# Altium integrated library Diploma_PCB.IntLib: 18 symbols
Pins are listed as number, name and electrical type; pins without a type are passive.

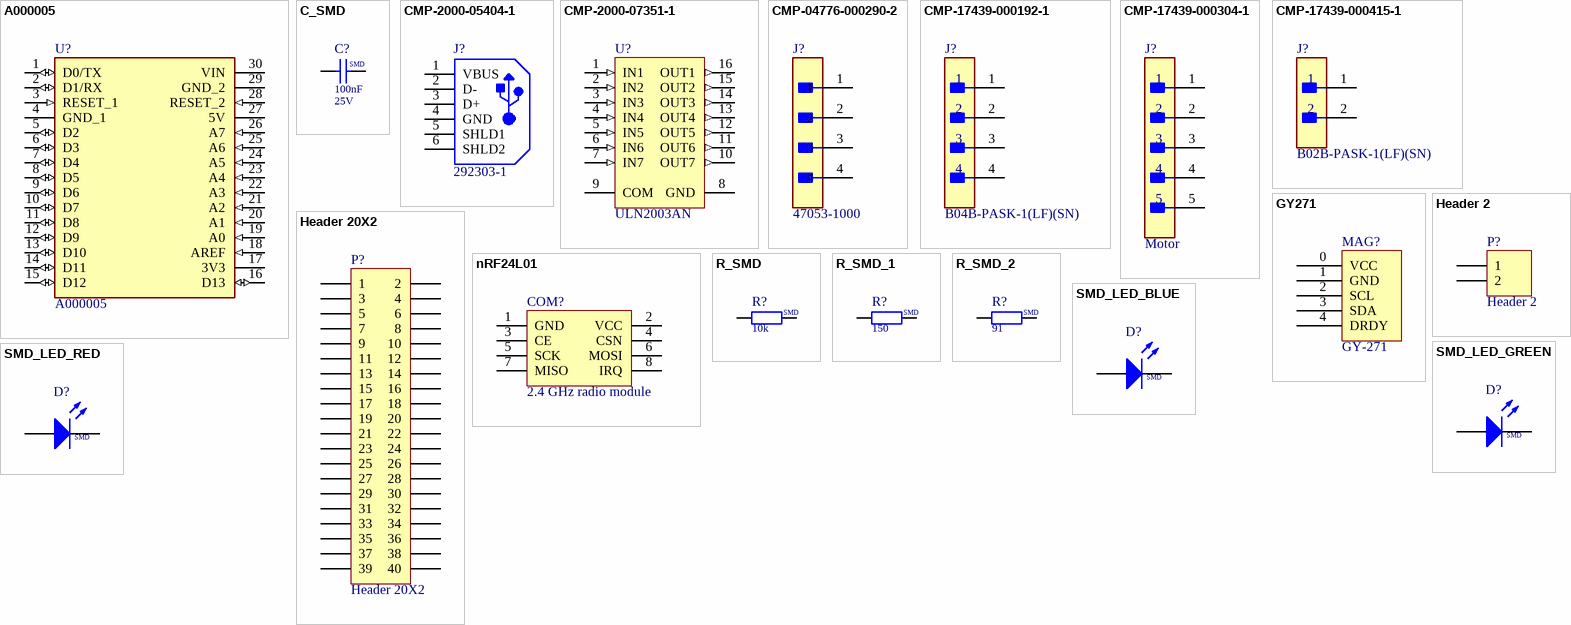
[diagram p0: symbols A000005 to SMD_LED_RED]

## A000005
designator U?
Small, complete, and breadboard-friendly board based on the ATmega328 (Arduino Nano 3.x).; Check_prices: https://www.snapeda.com/parts/A000005/Arduino/view-part/?ref=eda; Value: *; Availability: In Stock; MP: A000005; Price: None; Package: Non-Standard Arduino; SnapEDA_Link: https://www.snapeda.com/parts/A000005/Arduino/view-part/?ref=snap; Purchase-URL: https://pricing.snapeda.com/search/part/A000005/?ref=eda; MF: Arduino
footprint MODULE_A000005
pins: 1 D0/TX (io), 2 D1/RX (io), 3 RESET_1 (in), 4 GND_1 (power), 5 D2 (io), 6 D3 (io), 7 D4 (io), 8 D5 (io), 9 D6 (io), 10 D7 (io), 11 D8 (io), 12 D9 (io), 13 D10 (io), 14 D11 (io), 15 D12 (io), 16 D13 (io), 17 3V3 (power), 18 AREF (in), 19 A0 (in), 20 A1 (in), 21 A2 (in), 22 A3 (in), 23 A4 (in), 24 A5 (in), 25 A6 (in), 26 A7 (in), 27 5V (power), 28 RESET_2 (in), 29 GND_2 (power), 30 VIN (power)

## C_SMD
designator C?, comment Rated Voltage: 25V  (hidden comment: 100nF)
SMD Capacitor; Usage: only permitted for non-commercial purposes at HTL I Innsbruck; Published: 21-Feb-2011; LatestRevisionDate: 07-Sep-2019; Value: 100nF
simulation model C_SMD (SMD Capacitor)
signal-integrity model C_SMD (SMD Capacitor)
footprint C_SMD_C0402 (SMD, 0402)
footprint C_SMD_C0603 (SMD, 0603)
footprint C_SMD_C0805 (SMD, 0805)
footprint C_SMD_C1005 (SMD, 1005)
footprint C_SMD_C1206 (SMD, 1206)
footprint C_SMD_C1210 (SMD, 1210)
footprint C_SMD_C1812 (SMD, 1812)
footprint C_SMD_C3216 (SMD, 3216)
pins: 1, 2
text: SMD

## CMP-2000-05404-1
designator J?, comment 292303-1
1 Port Right Angle Through Hole Mount Female Type A USB Connector, 4 Position, -55 to 85 degC, RoHS, Tube; Manufacturer: TE Connectivity; Contact Termination Type: Solder; No. of Contacts: 4; Connector Mounting: PCB; SVHC: NoSVHC(16-Jun-2014); Gender: Receptacle; Connector Type: USBA; Package Description: 4-Pin Through Hole Device, Body 14 x 13.13 mm, Pitch 2.5 mm; Contact Plating: Gold; Package Reference: 292303-1; Contact Material: Copper; Datasheet URL: http://www.farnell.com/cad/1653030.pdf; Datasheet Version: Feb-12; Manufacturer URL: http://www.te.com/; Manufacturer Part Number: 292303-1
footprint TE-292303-1_V (THD, 4-Leads, Body 13.13x14mm, Pitch 2.5mm)
pins: 1 VBUS, 2 D-, 3 D+, 4 GND, 5 SHLD1, 6 SHLD2

## CMP-2000-07351-1
designator U?, comment ULN2003AN
Seven Darlington Array, 50 V, 0.5 A, -40 to 85 degC, 16-Pin DIP, RoHS, Tube; Manufacturer: STMicroelectronics; Transistor Polarity: NPN; VOUT: 50V; No. of Pins: 16Pins; SVHC: NoSVHC(17-Dec-2015); DC Current Gain hFE: 1000hFE; Output Current: 0.5A; DC Collector Current: 500mA; Transistor Case Style: DIP; Package Reference: DIP-16L; Automotive Qualification Standard: -; Mounting Technology: ThroughHole; Power Dissipation Pd: -; Collector Emitter Voltage V(br)ceo: 50V; Datasheet URL: http://www2.st.com/content/ccc/resource/technical/document/datasheet/f3/6e/c8/64/4d/b3/4e/38/CD00001244.pdf/files/CD00001244.pdf/jcr:content/translations/en.CD00001244.pdf; Manufacturer URL: http://www.st.com/; PartNumber: ULN2003A; MSL: MSL2-1year; Product Range: -; Package Description: 16-Pin DIP, Body 19.7 x 7.1 mm, Pitch 2.54 mm; Operating Temperature Max: 85°C; Datasheet Version: Rev. 8, 06/2012; Manufacturer Part Number: ULN2003A
footprint STM-DIP-16L (DIP, 16-Leads, Body 19.7x7.1mm, Pitch 2.54mm)
pins: 1 IN1 (in), 2 IN2 (in), 3 IN3 (in), 4 IN4 (in), 5 IN5 (in), 6 IN6 (in), 7 IN7 (in), 8 GND (power), 9 COM, 10 OUT7 (out), 11 OUT6 (out), 12 OUT5 (out), 13 OUT4 (out), 14 OUT3 (out), 15 OUT2 (out), 16 OUT1 (out)

## CMP-04776-000290-2
designator J?, comment 47053-1000
CONN HEADER VERT 4POS 2.54MM; NexarPartId: 854935; Manufacturer Lifecycle Status: ACTIVE; Manufacturer: Molex; Voltage Rating (DC): 250V; Gender: Male; Plating: Copper; Number of Positions: 4; Glow Wire Compliant: Non-compliant; Current Rating: 500mA; Max Operating Temperature: 75°C; Number of Rows: 1; REACH SVHC: Unknown; Ambient Temperature Range High: 105°C; Pitch: 2.54mm; Height: 7.7mm; Min Operating Temperature: 0°C; Packaging: Bulk; Contact Material: Brass, Copper; Contact Plating: Tin; Lead Pitch: 2.54mm; Voltage Rating: 250V; Termination: Through Hole; Radiation Hardening: No; Orientation: Vertical; Mount: Through Hole; Number of Pins: 4; Country of Origin: HK; Halogen Free: Low Halogen; Lifecycle Status: Production; Number of Circuits: 4; Schedule B: 8536694040, 8536694040; Housing Color: Beige; Housing Material: Nylon; Depth: 5.84mm; RoHS: Compliant; Length: 10.2mm; Number of Contacts: 4; Manufacturer Part Number: 47053-1000
footprint FP-470531000-MFG (KK 254 Vertical Header, with Friction Lock, 4 Circuits, PC Tail Length 3.50mm, Bag)
pins: 1, 2, 3, 4

## CMP-17439-000192-1
designator J?, comment B04B-PASK-1(LF)(SN)
CONN HEADER VERT 4POS 2MM; Manufacturer: JST; Voltage Rating: 250V; Number of Positions: 4; Current Rating: 3A; Mated Stacking Heights: 14.9mm; Gender: Male; Contact Resistance: 20mR; Termination: Solder; Length: 10mm; Number of Rows: 1; Depth: 5.3mm; Contact Plating: Copper; Packaging: Bulk; Housing Color: White; Contact Shape: Square; Contact Mating Length: 0.126inch; Color: Natural; Min Operating Temperature: -25°C; Fastening Type: Ramp; Max Current Rating: 3A; Lead Free: Lead Free; Flammability Rating: UL94 V-0; Connector Type: Header; Contact Finish - Mating: TIN; Max Voltage Rating (AC): 250V; Mount: Through Hole; Number of Contacts: 4; Orientation: Straight; Series: PA; Pitch: 2mm; Insulation Color: Natural; Contact Material: Copper Alloy; Max Operating Temperature: 85°C; Contact Type: Male Pin; Insulation Material: PBT; Manufacturer Part Number: B04B-PASK-1(LF)(SN)
footprint FP-B04B-PASK-1_LF_SN-MFG
pins: 1, 2, 3, 4

## CMP-17439-000304-1
designator J?, comment Motor
CONN HEADER VERT 5POS 2.5MM; Manufacturer: JST; Manufacturer Part Number: B5B-XH-AM(LF)(SN); Mated Stacking Heights: 9.8mm; Voltage Rating: 250V; Max Current Rating: 3A; Number of Positions: 5; Contact Resistance: 20mR; Depth: 5.75mm; Connector Type: Header; Color: Green; Insulation Material: Nylon; Contact Plating: Copper; Length: 14.9mm; Fastening Type: Detent; Contact Material: Brass; Number of Rows: 1; Contact Type: Male Pin; Housing Material: Polyamide; Housing Color: White; Lead Free: Lead Free; Max Voltage Rating (AC): 250V; Mount: Through Hole; Contact Shape: Square; Min Operating Temperature: -25°C; Packaging: Bulk; Orientation: Straight; Insulation Color: Natural; Series: XH; Flammability Rating: UL94 V-0; Contact Finish - Mating: TIN; Max Operating Temperature: 85°C; Termination: Solder; Pitch: 2.5mm
footprint FP-B5B-XH-AM_LF_SN-MFG
pins: 1, 2, 3, 4, 5

## CMP-17439-000415-1
designator J?, comment B02B-PASK-1(LF)(SN)
CONN HEADER VERT 2POS 2MM; Manufacturer: JST; Number of Contacts: 2; Current Rating: 3A; Insulation Resistance: 1GR; Mated Stacking Heights: 14.9mm; Voltage Rating: 250V; Gender: Male; Pitch: 2mm; Orientation: Straight; Contact Finish - Mating: TIN; Mount: Through Hole; Contact Type: Male Pin; Number of Rows: 1; Fastening Type: Ramp; Series: PA; Connector Type: Header; Insulation Color: Natural; Flammability Rating: UL94 V-0; Material: Polybutylene; Contact Shape: Square; Contact Plating: Tin; Insulation Material: PBT; Max Operating Temperature: 85°C; Housing Color: White; Number of Positions: 2; Contact Material: Copper Alloy; Min Operating Temperature: -25°C; Lead Free: Lead Free; Contact Mating Length: 0.126inch; Termination: Solder; Packaging: Bulk; Color: Natural; Manufacturer Part Number: B02B-PASK-1(LF)(SN)
footprint FP-B02B-PASK-1_LF_SN-MFG
pins: 1, 2

## GY271
designator MAG?, comment GY-271
I2C Compass Module Compass Magnet Sensor
footprint GY271; pin to pad 0>VCC 1>GND 2>SCL 3>SDA 4>DRDY
pins: 0 VCC, 1 GND, 2 SCL, 3 SDA, 4 DRDY

## Header 2
designator P?
Header, 2-Pin; LatestRevisionDate: 17-Jul-2002; LatestRevisionNote: Re-released for DXP Platform.; Publisher: Altium Limited
footprint HDR1X2 (Connector; Header; 2 Position)
signal-integrity model Connector
pins: 1, 2

## Header 20X2
designator P?
Header, 20-Pin, Dual row; LatestRevisionDate: 17-Jul-2002; LatestRevisionNote: Re-released for DXP Platform.; Publisher: Altium Limited
footprint HDR2X20 (Connector; Header; 20x2 Position)
signal-integrity model Connector
pins: 1, 2, 3, 4, 5, 6, 7, 8, 9, 10, 11, 12, 13, 14, 15, 16, 17, 18, 19, 20, 21, 22, 23, 24, 25, 26, 27, 28, 29, 30, 31, 32, 33, 34, 35, 36, 37, 38, 39, 40

## nRF24L01
designator COM?, comment 2.4 GHz radio module
Header, 4-Pin, Dual row; LatestRevisionDate: 17-Jul-2002; LatestRevisionNote: Re-released for DXP Platform.; Publisher: Altium Limited
footprint nRF24L01; pin to pad 1>GND 2>VCC 3>CE 4>CSN 5>SCK 6>MOSI 7>MISO 8>IRQ
pins: 1 GND, 2 VCC, 3 CE, 4 CSN, 5 SCK, 6 MOSI, 7 MISO, 8 IRQ

## R_SMD
designator R?, comment 10k
SMD Resistor; Usage: only permitted for non-commercial purposes at HTL I Innsbruck; Published: 21-Feb-2011; LatestRevisionDate: 07-Sep-2019; Value: 10k
simulation model R_SMD (SMD Resistor)
signal-integrity model R_SMD (SMD Resistor)
footprint R_SMD_R0805 (SMD, 0805)
footprint R_SMD_R0402 (SMD, 0402)
footprint R_SMD_R0603 (SMD, 0603)
footprint R_SMD_R1005 (SMD, 1005)
footprint R_SMD_R1206 (SMD, 1206)
footprint R_SMD_R1210 (SMD, 1210)
footprint R_SMD_R3216 (SMD, 3216)
pins: 1, 2
text: SMD

## R_SMD_1
designator R?, comment 150
SMD Resistor; Usage: only permitted for non-commercial purposes at HTL I Innsbruck; Published: 21-Feb-2011; LatestRevisionDate: 07-Sep-2019; Value: 150
simulation model R_SMD (SMD Resistor)
signal-integrity model R_SMD (SMD Resistor)
footprint R_SMD_R0805 (SMD, 0805)
footprint R_SMD_R0402 (SMD, 0402)
footprint R_SMD_R0603 (SMD, 0603)
footprint R_SMD_R1005 (SMD, 1005)
footprint R_SMD_R1206 (SMD, 1206)
footprint R_SMD_R1210 (SMD, 1210)
footprint R_SMD_R3216 (SMD, 3216)
pins: 1, 2
text: SMD

## R_SMD_2
designator R?, comment 91
SMD Resistor; Usage: only permitted for non-commercial purposes at HTL I Innsbruck; Published: 21-Feb-2011; LatestRevisionDate: 07-Sep-2019; Value: 91
simulation model R_SMD (SMD Resistor)
signal-integrity model R_SMD (SMD Resistor)
footprint R_SMD_R0805 (SMD, 0805)
footprint R_SMD_R0402 (SMD, 0402)
footprint R_SMD_R0603 (SMD, 0603)
footprint R_SMD_R1005 (SMD, 1005)
footprint R_SMD_R1206 (SMD, 1206)
footprint R_SMD_R1210 (SMD, 1210)
footprint R_SMD_R3216 (SMD, 3216)
pins: 1, 2
text: SMD

## SMD_LED_BLUE
designator D?, comment SMD LED BLUE  (value not drawn)
Blue SiC LED (Vf=3.2V, If=20mA); Usage: only permitted for non-commercial purposes at HTL I Innsbruck; SimulationModellSource: Miscellaneous Devices; Published: 29-Mar-2017; LatestRevisionDate: 21-Jun-2015
simulation model LED_BLUE (Diode)
footprint SMD_0603_CHIP-LED
footprint SMD_0805_CHIP-LED
footprint SMD_0805_CHIP-LED - BLUE
footprint SMD_1206_CHIP-LED
footprint SMD_3528 (Kingbright 3.5x2.8x1.9mm)
footprint SMD_PLCC2
pins: A, K
text: SMD

## SMD_LED_GREEN
designator D?, comment SMD LED GREEN  (value not drawn)
Green GaAs LED (Vf=2V, If=20mA); Usage: only permitted for non-commercial purposes at HTL I Innsbruck; SimulationModellSource: Miscellaneous Devices; Published: 29-Mar-2017; LatestRevisionDate: 21-Jun-2015
simulation model LED_GRN_YEL (Diode)
footprint SMD_0603_CHIP-LED
footprint SMD_0805_CHIP-LED
footprint SMD_0805_CHIP-LED - GREEN
footprint SMD_1206_CHIP-LED
footprint SMD_3528 (Kingbright 3.5x2.8x1.9mm)
footprint SMD_PLCC2
footprint SMD_0603_CHIP-LED - GREEN
pins: A, K
text: SMD

## SMD_LED_RED
designator D?, comment SMD LED RED  (value not drawn)
Red GaAs LED (Vf=2V, If=20mA); Usage: only permitted for non-commercial purposes at HTL I Innsbruck; SimulationModellSource: Miscellaneous Devices; Published: 29-Mar-2017; LatestRevisionDate: 21-Jun-2015
simulation model LED_RED (Diode)
footprint SMD_0603_CHIP-LED
footprint SMD_0805_CHIP-LED
footprint SMD_0805_CHIP-LED - RED
footprint SMD_1206_CHIP-LED
footprint SMD_3528 (Kingbright 3.5x2.8x1.9mm)
footprint SMD_PLCC2
footprint SMD_SOT-23 (SOT23, 3-Leads, Body 2.9x1.3mm, Pitch 0.95mm, Lead Span 2.3mm, IPC Low Density); pin to pad A>1 K>3
pins: A, K
text: SMD